# Altium integrated library con-4ucon.IntLib: 1 symbol
Pins are listed as number, name and electrical type; pins without a type are passive.

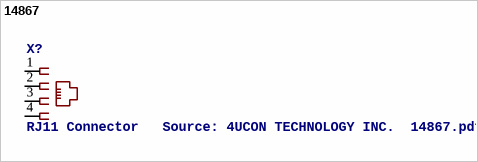
[diagram p0: symbol 14867]

## 14867
designator X?, comment RJ11 Connector   Source: 4UCON TECHNOLOGY INC.  14867.pdf
OC_FARNELL: unknown; OC_NEWARK: unknown
footprint 14867
pins: 1, 2, 3, 4